# EAGLE library part CON_PINHD-2X5 (library akita)
PIN HEADER
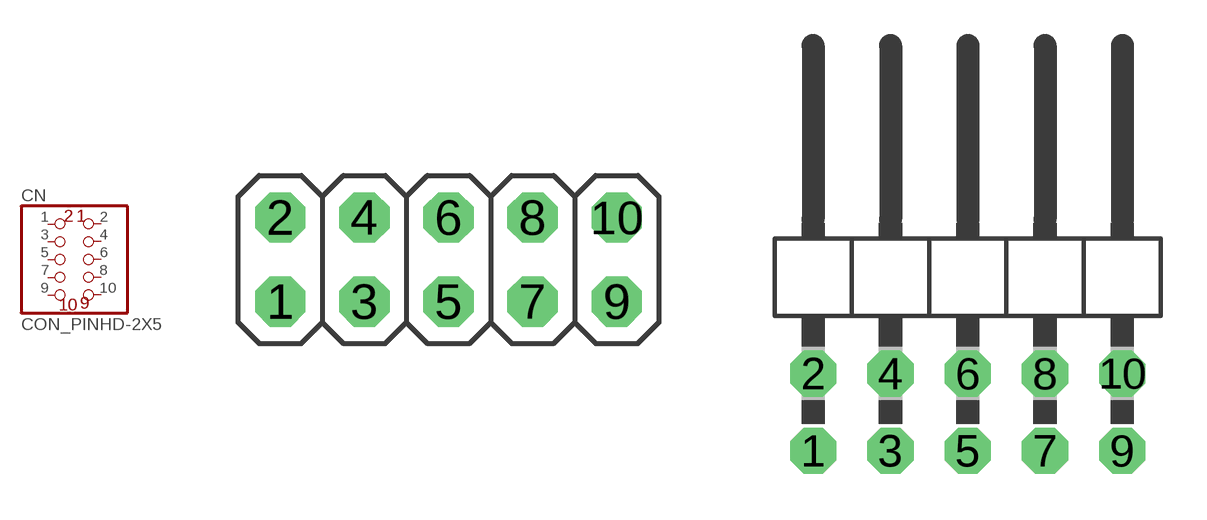
[diagram p12: symbol with the pads of 2X05; footprints 2X05, 2X05/90]

Designator prefix CN

## CON_PINHD-2X5  [2X05]
1  1  pas
2  2  pas
3  3  pas
4  4  pas
5  5  pas
6  6  pas
7  7  pas
8  8  pas
9  9  pas
10  10  pas

## CON_PINHD-2X5/90  [2X05/90]
Pads as for 2X05

## CON_PINHD-2X550MIL  [2X5_50MIL]
P$1  1  pas
P$2  2  pas
P$3  3  pas
P$4  4  pas
P$5  5  pas
P$6  6  pas
P$7  7  pas
P$8  8  pas
P$9  9  pas
P$10  10  pas

## Footprint 2X05 (pad centres in mm)
PIN HEADER
drill 1.016 octagon: 1 -5.08,-1.27; 2 -5.08,1.27; 3 -2.54,-1.27; 4 -2.54,1.27; 5 0,-1.27; 6 0,1.27; 7 2.54,-1.27; 8 2.54,1.27; 9 5.08,-1.27; 10 5.08,1.27

## Footprint 2X05/90 (pad centres in mm)
PIN HEADER
drill 1.016 octagon: 1 -5.08,-6.35; 2 -5.08,-3.81; 3 -2.54,-6.35; 4 -2.54,-3.81; 5 0,-6.35; 6 0,-3.81; 7 2.54,-6.35; 8 2.54,-3.81; 9 5.08,-6.35; 10 5.08,-3.81

## Footprint 2X5_50MIL (pad centres in mm)
drill 0.6 square: P$1 -0.635,2.54
drill 0.6: P$2 0.635,2.54; P$3 -0.635,1.27; P$4 0.635,1.27; P$5 -0.635,0; P$6 0.635,0; P$7 -0.635,-1.27; P$8 0.635,-1.27; P$9 -0.635,-2.54; P$10 0.635,-2.54